# Altium integrated library TI Power Management DC-DC Controller (External Switch).IntLib: 349 symbols (part 7 of 28)
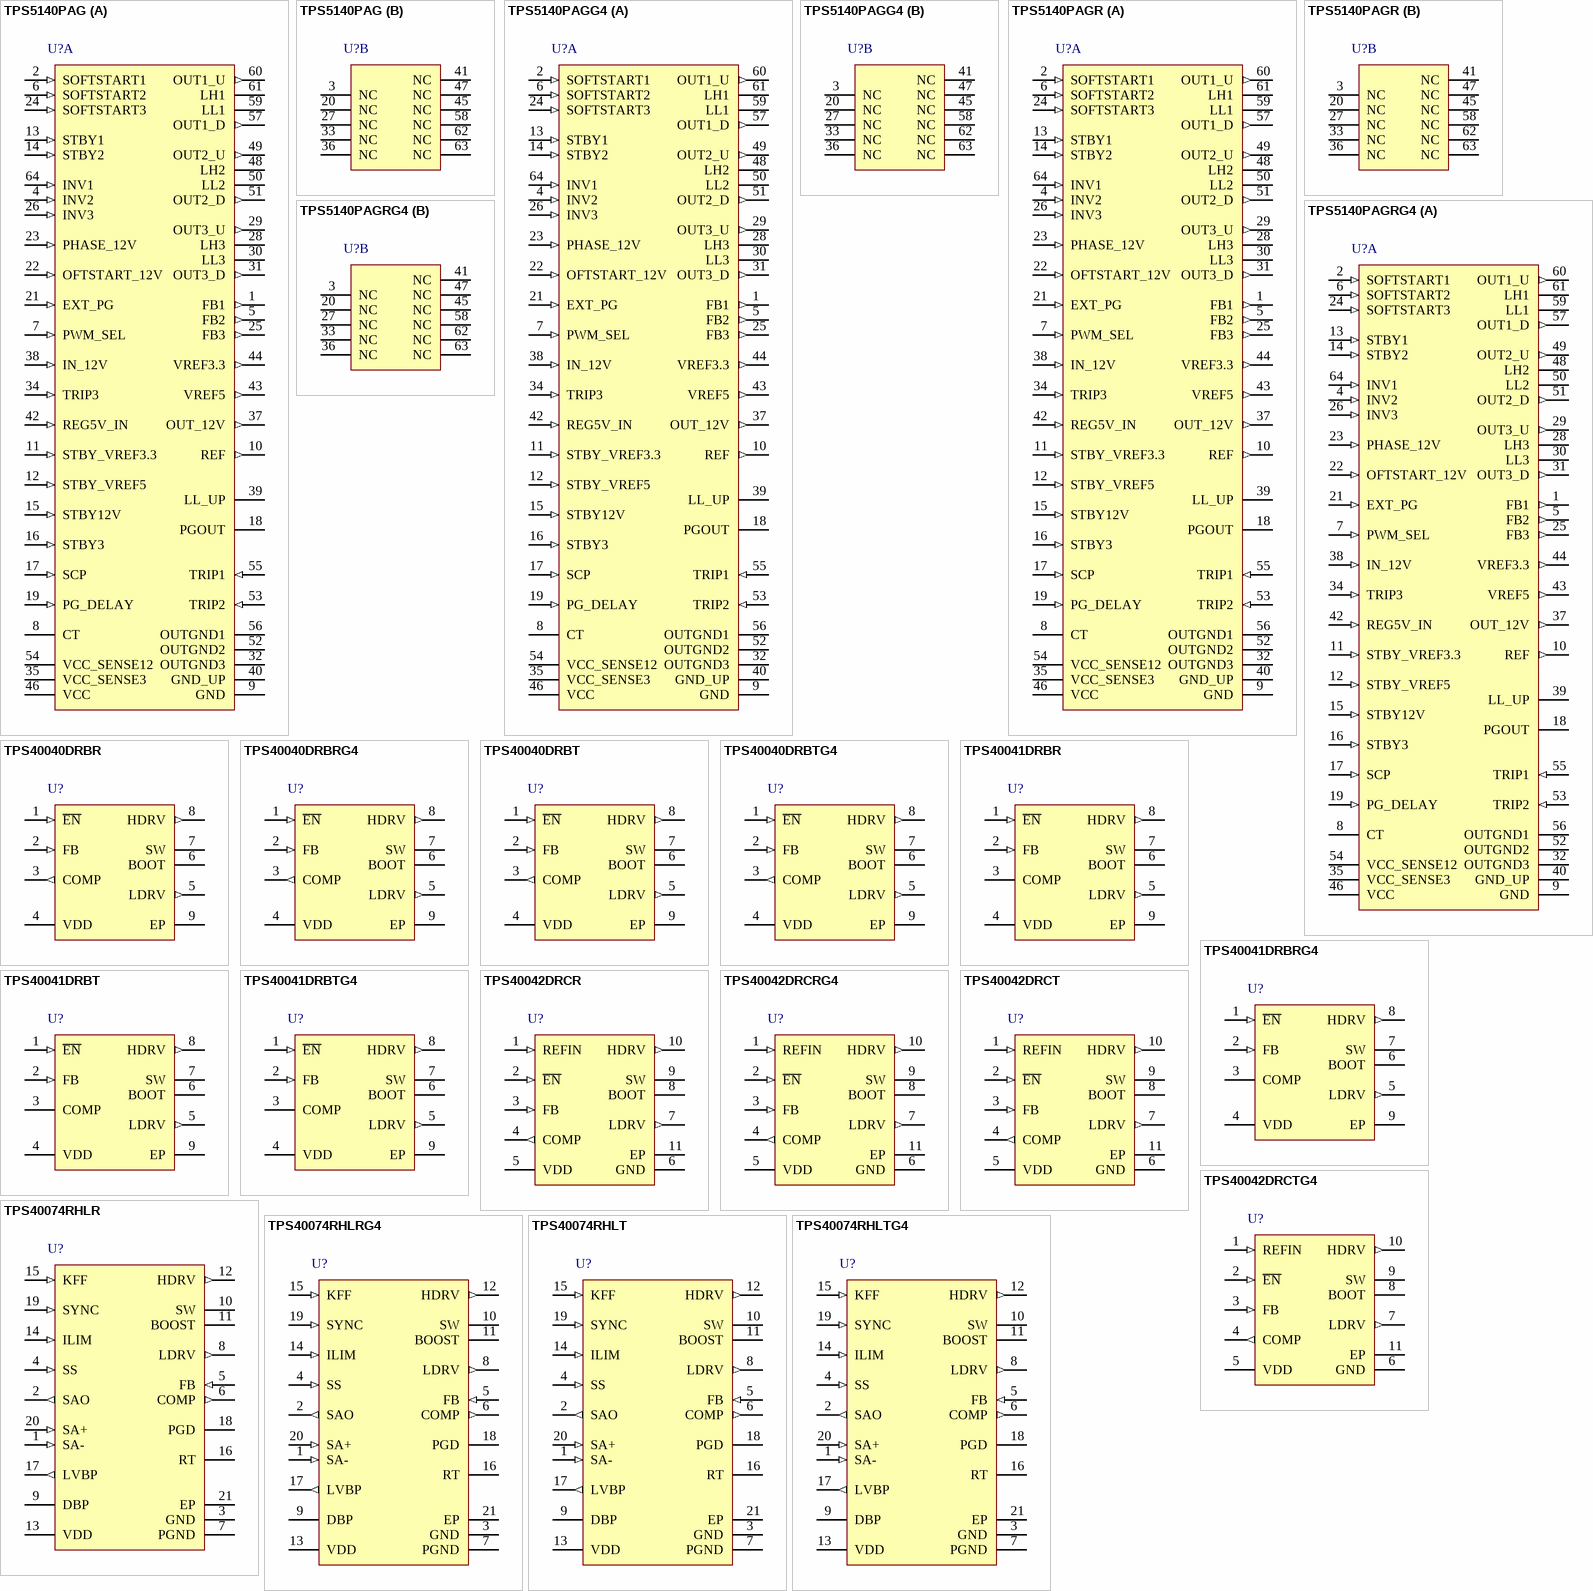
[diagram p20: symbols TPS5140PAG to TPS40074RHLTG4]

## TPS40042DRCRG4
designator U?
Low Pin Count, Low Vin Synchronous Buck DCDC Controller with Tracking, 90 % Duty Cycle, 3 to 5.5 V, -40 to 85 degC, 10-pin SON (DRC), Green (RoHS & no Sb/Br); Manufacturer: Texas Instruments; PartNumber: TPS40042DRCRG4; Duty Cycle(Max)(%): 90; Iout(Max)(A): 15; Regulated Outputs(#): 1; SubFamily: Step-Down Controller; Switching Frequency(Max)(kHz): 600; Synchronous Rectification: TRUE; Vin(Max)(V): 5.5; Vin(Min)(V): 3; Vout(Max)(V): 4.95; Vout(Min)(V): 0.6; DatasheetVersion: SLUS777; PackageVersion: revL, Sep-2011; PackageReference: DRC10-2400X1650TP; PackageDescription: 10-Pin Plastic Small Outline No-Lead, 3 x 3 x 1 mm Body, 0.5 mm Pitch, Exposed Pad; Supplier 1: Digi-Key; Supplier Part Number 1: TPS40042DRCRG4-ND; Supplier 2: Mouser; Supplier Part Number 2: 595-TPS40042DRCRG4; Eco-Plan: Green (RoHS & no Sb/Br); Topology: Buck; Mounting Technology: Surface Mount; ComponentLink1Description: Datasheet; ComponentLink1URL: http://www.ti.com/general/docs/lit/getliterature.tsp?genericPartNumber=TPS40042&fileType=pdf; ComponentLink2Description: Package Specification; ComponentLink2URL: http://www.ti.com/litv/pdf/mpds117k
footprint DRC10-2400X1650TP (SON, 10-Leads, Body 3x3mm, Pitch 0.5mm, Thermal Pad 2.4x1.65mm, TI Recommended)
pins: 1 REFIN (in) "Non-inverting imput to the error amplifier. A precision voltage must be applied to this pin before the TPS40042 is enabled. Since this input is connected directly to the non-inverting pin of the error amplifier, the quality (See Datasheet)", 2 ~{EN} (in) "Active low enable input allows ON/OFF operation of the controller. If power is applied to the TPS40042 while the EN pin is allowed to float high, the TPS40042 remains disabled (both external switches are held OFF). Only when (See Datasheet)", 3 FB (in) "Inverting input of the error amplifier. In closed loop operation, the voltage at this pin is at the same potential as the REFIN pin. A series resistor divider from the converter output to ground, with the center connection (See Datasheet)", 4 COMP (out) "Output of the error amplifier and connection node for loop feedback components. The voltage at this pin determines the duty cycle for the PWM. Optionally, a resistor from this pin to ground is used to determine the voltage (See Datasheet)", 5 VDD (power) "Power input to the device. This pin should be locally bypassed to GND with a low ESR ceramic capacitor of 1 µF or greater.", 6 GND (power) "Electrical ground connection for the device.", 7 LDRV (out) "Gate drive output for the low-side synchronous rectifier (SR) N-channel MOSFET.", 8 BOOT (power) "Input (bootstrapped) supply to the high-side gate driver for PWM enabling the gate of the high side FET to be driven above the input supply rail. Connect a ceramic capacitor from this pin to SW. This capacitor is charged (See Datasheet)", 9 SW (power) "Connection to the switched node of the converter and the power return for the upper gate driver. There should be a high current return path from the source of the upper MOSFET to this pin. It is also used by the adaptive (See Datasheet)", 10 HDRV (out) "This is the gate drive output for the high side N-channel MOSFET switch for PWM. It is referenced to SW and is bootstrapped for enhancement of the high-side switch.", 11 EP (power) "Thermal pad used to conduct heat from the device. This pad should be tied externally to a ground plane. See Application Section for PC board layout information."

## TPS40042DRCT
designator U?
Low Pin Count, Low Vin Synchronous Buck DCDC Controller with Tracking, 90 % Duty Cycle, 3 to 5.5 V, -40 to 85 degC, 10-pin SON (DRC), Green (RoHS & no Sb/Br); Manufacturer: Texas Instruments; PartNumber: TPS40042DRCT; Duty Cycle(Max)(%): 90; Iout(Max)(A): 15; Regulated Outputs(#): 1; SubFamily: Step-Down Controller; Switching Frequency(Max)(kHz): 600; Synchronous Rectification: TRUE; Vin(Max)(V): 5.5; Vin(Min)(V): 3; Vout(Max)(V): 4.95; Vout(Min)(V): 0.6; DatasheetVersion: SLUS777; PackageVersion: revL, Sep-2011; PackageReference: DRC10-2400X1650TP; PackageDescription: 10-Pin Plastic Small Outline No-Lead, 3 x 3 x 1 mm Body, 0.5 mm Pitch, Exposed Pad; Supplier 1: Digi-Key; Supplier Part Number 1: 296-22978-2-ND; Supplier 2: Digi-Key; Supplier Part Number 2: 296-22978-1-ND; Supplier 3: Digi-Key; Supplier Part Number 3: 296-22978-6-ND; Supplier 4: Newark; Supplier Part Number 4: 73M7842; Supplier 5: Mouser; Supplier Part Number 5: 595-TPS40042DRCT; Eco-Plan: Green (RoHS & no Sb/Br); Topology: Buck; Mounting Technology: Surface Mount; ComponentLink1Description: Datasheet; ComponentLink1URL: http://www.ti.com/general/docs/lit/getliterature.tsp?genericPartNumber=TPS40042&fileType=pdf; ComponentLink2Description: Package Specification; ComponentLink2URL: http://www.ti.com/litv/pdf/mpds117k
footprint DRC10-2400X1650TP (SON, 10-Leads, Body 3x3mm, Pitch 0.5mm, Thermal Pad 2.4x1.65mm, TI Recommended)
pins: 1 REFIN (in) "Non-inverting imput to the error amplifier. A precision voltage must be applied to this pin before the TPS40042 is enabled. Since this input is connected directly to the non-inverting pin of the error amplifier, the quality (See Datasheet)", 2 ~{EN} (in) "Active low enable input allows ON/OFF operation of the controller. If power is applied to the TPS40042 while the EN pin is allowed to float high, the TPS40042 remains disabled (both external switches are held OFF). Only when (See Datasheet)", 3 FB (in) "Inverting input of the error amplifier. In closed loop operation, the voltage at this pin is at the same potential as the REFIN pin. A series resistor divider from the converter output to ground, with the center connection (See Datasheet)", 4 COMP (out) "Output of the error amplifier and connection node for loop feedback components. The voltage at this pin determines the duty cycle for the PWM. Optionally, a resistor from this pin to ground is used to determine the voltage (See Datasheet)", 5 VDD (power) "Power input to the device. This pin should be locally bypassed to GND with a low ESR ceramic capacitor of 1 µF or greater.", 6 GND (power) "Electrical ground connection for the device.", 7 LDRV (out) "Gate drive output for the low-side synchronous rectifier (SR) N-channel MOSFET.", 8 BOOT (power) "Input (bootstrapped) supply to the high-side gate driver for PWM enabling the gate of the high side FET to be driven above the input supply rail. Connect a ceramic capacitor from this pin to SW. This capacitor is charged (See Datasheet)", 9 SW (power) "Connection to the switched node of the converter and the power return for the upper gate driver. There should be a high current return path from the source of the upper MOSFET to this pin. It is also used by the adaptive (See Datasheet)", 10 HDRV (out) "This is the gate drive output for the high side N-channel MOSFET switch for PWM. It is referenced to SW and is bootstrapped for enhancement of the high-side switch.", 11 EP (power) "Thermal pad used to conduct heat from the device. This pad should be tied externally to a ground plane. See Application Section for PC board layout information."

## TPS40042DRCTG4
designator U?
Low Pin Count, Low Vin Synchronous Buck DCDC Controller with Tracking, 90 % Duty Cycle, 3 to 5.5 V, -40 to 85 degC, 10-pin SON (DRC), Green (RoHS & no Sb/Br); Manufacturer: Texas Instruments; PartNumber: TPS40042DRCTG4; Duty Cycle(Max)(%): 90; Iout(Max)(A): 15; Regulated Outputs(#): 1; SubFamily: Step-Down Controller; Switching Frequency(Max)(kHz): 600; Synchronous Rectification: TRUE; Vin(Max)(V): 5.5; Vin(Min)(V): 3; Vout(Max)(V): 4.95; Vout(Min)(V): 0.6; DatasheetVersion: SLUS777; PackageVersion: revL, Sep-2011; PackageReference: DRC10-2400X1650TP; PackageDescription: 10-Pin Plastic Small Outline No-Lead, 3 x 3 x 1 mm Body, 0.5 mm Pitch, Exposed Pad; Supplier 1: Digi-Key; Supplier Part Number 1: TPS40042DRCTG4-ND; Supplier 2: Mouser; Supplier Part Number 2: 595-TPS40042DRCTG4; Eco-Plan: Green (RoHS & no Sb/Br); Topology: Buck; Mounting Technology: Surface Mount; ComponentLink1Description: Datasheet; ComponentLink1URL: http://www.ti.com/general/docs/lit/getliterature.tsp?genericPartNumber=TPS40042&fileType=pdf; ComponentLink2Description: Package Specification; ComponentLink2URL: http://www.ti.com/litv/pdf/mpds117k
footprint DRC10-2400X1650TP (SON, 10-Leads, Body 3x3mm, Pitch 0.5mm, Thermal Pad 2.4x1.65mm, TI Recommended)
pins: 1 REFIN (in) "Non-inverting imput to the error amplifier. A precision voltage must be applied to this pin before the TPS40042 is enabled. Since this input is connected directly to the non-inverting pin of the error amplifier, the quality (See Datasheet)", 2 ~{EN} (in) "Active low enable input allows ON/OFF operation of the controller. If power is applied to the TPS40042 while the EN pin is allowed to float high, the TPS40042 remains disabled (both external switches are held OFF). Only when (See Datasheet)", 3 FB (in) "Inverting input of the error amplifier. In closed loop operation, the voltage at this pin is at the same potential as the REFIN pin. A series resistor divider from the converter output to ground, with the center connection (See Datasheet)", 4 COMP (out) "Output of the error amplifier and connection node for loop feedback components. The voltage at this pin determines the duty cycle for the PWM. Optionally, a resistor from this pin to ground is used to determine the voltage (See Datasheet)", 5 VDD (power) "Power input to the device. This pin should be locally bypassed to GND with a low ESR ceramic capacitor of 1 µF or greater.", 6 GND (power) "Electrical ground connection for the device.", 7 LDRV (out) "Gate drive output for the low-side synchronous rectifier (SR) N-channel MOSFET.", 8 BOOT (power) "Input (bootstrapped) supply to the high-side gate driver for PWM enabling the gate of the high side FET to be driven above the input supply rail. Connect a ceramic capacitor from this pin to SW. This capacitor is charged (See Datasheet)", 9 SW (power) "Connection to the switched node of the converter and the power return for the upper gate driver. There should be a high current return path from the source of the upper MOSFET to this pin. It is also used by the adaptive (See Datasheet)", 10 HDRV (out) "This is the gate drive output for the high side N-channel MOSFET switch for PWM. It is referenced to SW and is bootstrapped for enhancement of the high-side switch.", 11 EP (power) "Thermal pad used to conduct heat from the device. This pad should be tied externally to a ground plane. See Application Section for PC board layout information."

## TPS40074RHLR
designator U?
Mid Range Input Synchronous Buck Controller with Voltage Feed-Forward, 84 % Duty Cycle, 4.5 to 28 V, -40 to 85 degC, 20-pin QFN (RHL), Green (RoHS & no Sb/Br); Manufacturer: Texas Instruments; PartNumber: TPS40074RHLR; Duty Cycle(Max)(%): 84; Iout(Max)(A): 20; Regulated Outputs(#): 1; SubFamily: Step-Down Controller; Switching Frequency(Max)(kHz): 1000; Synchronous Rectification: TRUE; Vin(Max)(V): 28; Vin(Min)(V): 4.5; Vout(Max)(V): 23; Vout(Min)(V): 0.7; DatasheetVersion: SLUS617B; PackageVersion: revJ, Dec-2011; PackageReference: RHL20-3050X2050TP; PackageDescription: 20-Leads Plastic Quad Flatpack No-Lead, 4.5 x 3.5 x 0.9 mm Body, 0.5 mm Pitch, Exposed Pad; Supplier 1: Digi-Key; Supplier Part Number 1: 296-18670-2-ND; Supplier 2: Digi-Key; Supplier Part Number 2: 296-18670-1-ND; Supplier 3: Digi-Key; Supplier Part Number 3: 296-18670-6-ND; Supplier 4: Mouser; Supplier Part Number 4: 595-TPS40074RHLR; Eco-Plan: Green (RoHS & no Sb/Br); Topology: Buck; Mounting Technology: Surface Mount; ComponentLink1Description: Datasheet; ComponentLink1URL: http://www.ti.com/general/docs/lit/getliterature.tsp?genericPartNumber=TPS40074&fileType=pdf; ComponentLink2Description: Package Specification; ComponentLink2URL: http://www.ti.com/litv/pdf/mpqf155i
footprint RHL20-3050X2050TP (QFN, 20-Leads, Body 4.5x3.5mm, Pitch 0.5mm, Thermal Pad 3.05x2.05mm, TI Recommended)
pins: 1 SA- (in) "Inverting input of the remote voltage sense amplifier.", 2 SAO (out) "Output of the remote voltage sense amplifier.", 3 GND (power) "Ground reference for the device.", 4 SS (in) "Soft-start programming pin. A capacitor connected from this pin to GND programs the soft-start time. The capacitor is charged with an internal current source of 12 uA. The resulting voltage ramp on the SS pin is used as a (See Datasheet)", 5 FB (in) "Inverting input to the error amplifier. In normal operation the voltage on this pin is equal to the internal reference voltage, 0.7 V.", 6 COMP (out) "Output of the error amplifier, input to the PWM comparator. A feedback network is connected from this pin to the FB pin to compensate the overall loop. This pin is internally clamped to a 3.4-V maximum output drive (See Datasheet)", 7 PGND (power) "Power ground reference for the device. There should be a low-impedance path from this pin to the source(s) of the lower MOSFET(s).", 8 LDRV (out) "Gate drive for the N-channel synchronous rectifier. This pin switches from DBP (MOSFET on) to PGND (MOSFET off). For proper operation, the total gate charge of the MOSFET connected to LDRV should be less than 50nC.", 9 DBP (power) "8-V regulator output used for the gate drive of the N-channel synchronous rectifier and as the supply for charging the bootstrap capacitor. This pin should be bypassed to ground with a 1.0-uF ceramic capacitor.", 10 SW (power) "This pin is connected to the switched node of the converter and used for overcurrent sensing as well as gate drive timing. This pin is also the return path from the high-side FET for the floating high-side FET driver. A 1.(See Datasheet)", 11 BOOST (power) "The BOOST voltage is 8-V greater than the input voltage. The peak voltage on BOOST is equal to the SW node voltage plus the voltage present at DBP less the bootstrap diode drop. This drop can be 1.4 V for the internal (See Datasheet)", 12 HDRV (out) "Floating gate drive for the high-side N-channel MOSFET. This pin switches from BOOST (MOSFET on) to SW (MOSFET off).", 13 VDD (power) "Supply voltage for the device.", 14 ILIM (in) "Short circuit protection programming pin. This pin is used to set the overcurrent threshold. An internal current sink from this pin to ground sets a voltage drop across an external resistor connected from this pin to VDD. (See Datasheet)", 15 KFF (in) "A resistor is connected from this pin to VDD programs the amount of input voltage feed-forward. The current fed into this pin is used to control the slope of the PWM ramp and program undervoltage lockout. Nominal voltage at (See Datasheet)", 16 RT "A resistor is connected from this pin to GND to set the switching frequency.", 17 LVBP (out) "4.2-V reference used for internal device logic and analog functions. This pin should be bypassed to GND with a 0.1-uF ceramic capacitor. External loads less than 1 mA and electrically quiet may be applied.", 18 PGD (oc) "This is an open drain output that pulls to ground when soft start is active, or when the FB pin is outside a +/-10% band around the 700 mV reference voltage.", 19 SYNC (in) "Logic input for pulse train to synchronize oscillator.", 20 SA+ (in) "Noninverting input of the remote voltage sense amplifier.", 21 EP (power) "Exposed Thermal Pad"

## TPS40074RHLRG4
designator U?
Mid Range Input Synchronous Buck Controller with Voltage Feed-Forward, 84 % Duty Cycle, 4.5 to 28 V, -40 to 85 degC, 20-pin QFN (RHL), Green (RoHS & no Sb/Br); Manufacturer: Texas Instruments; PartNumber: TPS40074RHLRG4; Duty Cycle(Max)(%): 84; Iout(Max)(A): 20; Regulated Outputs(#): 1; SubFamily: Step-Down Controller; Switching Frequency(Max)(kHz): 1000; Synchronous Rectification: TRUE; Vin(Max)(V): 28; Vin(Min)(V): 4.5; Vout(Max)(V): 23; Vout(Min)(V): 0.7; DatasheetVersion: SLUS617B; PackageVersion: revJ, Dec-2011; PackageReference: RHL20-3050X2050TP; PackageDescription: 20-Leads Plastic Quad Flatpack No-Lead, 4.5 x 3.5 x 0.9 mm Body, 0.5 mm Pitch, Exposed Pad; Supplier 1: Digi-Key; Supplier Part Number 1: TPS40074RHLRG4-ND; Supplier 2: Mouser; Supplier Part Number 2: 595-TPS40074RHLRG4; Eco-Plan: Green (RoHS & no Sb/Br); Topology: Buck; Mounting Technology: Surface Mount; ComponentLink1Description: Datasheet; ComponentLink1URL: http://www.ti.com/general/docs/lit/getliterature.tsp?genericPartNumber=TPS40074&fileType=pdf; ComponentLink2Description: Package Specification; ComponentLink2URL: http://www.ti.com/litv/pdf/mpqf155i
footprint RHL20-3050X2050TP (QFN, 20-Leads, Body 4.5x3.5mm, Pitch 0.5mm, Thermal Pad 3.05x2.05mm, TI Recommended)
pins: 1 SA- (in) "Inverting input of the remote voltage sense amplifier.", 2 SAO (out) "Output of the remote voltage sense amplifier.", 3 GND (power) "Ground reference for the device.", 4 SS (in) "Soft-start programming pin. A capacitor connected from this pin to GND programs the soft-start time. The capacitor is charged with an internal current source of 12 uA. The resulting voltage ramp on the SS pin is used as a (See Datasheet)", 5 FB (in) "Inverting input to the error amplifier. In normal operation the voltage on this pin is equal to the internal reference voltage, 0.7 V.", 6 COMP (out) "Output of the error amplifier, input to the PWM comparator. A feedback network is connected from this pin to the FB pin to compensate the overall loop. This pin is internally clamped to a 3.4-V maximum output drive (See Datasheet)", 7 PGND (power) "Power ground reference for the device. There should be a low-impedance path from this pin to the source(s) of the lower MOSFET(s).", 8 LDRV (out) "Gate drive for the N-channel synchronous rectifier. This pin switches from DBP (MOSFET on) to PGND (MOSFET off). For proper operation, the total gate charge of the MOSFET connected to LDRV should be less than 50nC.", 9 DBP (power) "8-V regulator output used for the gate drive of the N-channel synchronous rectifier and as the supply for charging the bootstrap capacitor. This pin should be bypassed to ground with a 1.0-uF ceramic capacitor.", 10 SW (power) "This pin is connected to the switched node of the converter and used for overcurrent sensing as well as gate drive timing. This pin is also the return path from the high-side FET for the floating high-side FET driver. A 1.(See Datasheet)", 11 BOOST (power) "The BOOST voltage is 8-V greater than the input voltage. The peak voltage on BOOST is equal to the SW node voltage plus the voltage present at DBP less the bootstrap diode drop. This drop can be 1.4 V for the internal (See Datasheet)", 12 HDRV (out) "Floating gate drive for the high-side N-channel MOSFET. This pin switches from BOOST (MOSFET on) to SW (MOSFET off).", 13 VDD (power) "Supply voltage for the device.", 14 ILIM (in) "Short circuit protection programming pin. This pin is used to set the overcurrent threshold. An internal current sink from this pin to ground sets a voltage drop across an external resistor connected from this pin to VDD. (See Datasheet)", 15 KFF (in) "A resistor is connected from this pin to VDD programs the amount of input voltage feed-forward. The current fed into this pin is used to control the slope of the PWM ramp and program undervoltage lockout. Nominal voltage at (See Datasheet)", 16 RT "A resistor is connected from this pin to GND to set the switching frequency.", 17 LVBP (out) "4.2-V reference used for internal device logic and analog functions. This pin should be bypassed to GND with a 0.1-uF ceramic capacitor. External loads less than 1 mA and electrically quiet may be applied.", 18 PGD (oc) "This is an open drain output that pulls to ground when soft start is active, or when the FB pin is outside a +/-10% band around the 700 mV reference voltage.", 19 SYNC (in) "Logic input for pulse train to synchronize oscillator.", 20 SA+ (in) "Noninverting input of the remote voltage sense amplifier.", 21 EP (power) "Exposed Thermal Pad"

## TPS40074RHLT
designator U?
Mid Range Input Synchronous Buck Controller with Voltage Feed-Forward, 84 % Duty Cycle, 4.5 to 28 V, -40 to 85 degC, 20-pin QFN (RHL), Green (RoHS & no Sb/Br); Manufacturer: Texas Instruments; PartNumber: TPS40074RHLT; Duty Cycle(Max)(%): 84; Iout(Max)(A): 20; Regulated Outputs(#): 1; SubFamily: Step-Down Controller; Switching Frequency(Max)(kHz): 1000; Synchronous Rectification: TRUE; Vin(Max)(V): 28; Vin(Min)(V): 4.5; Vout(Max)(V): 23; Vout(Min)(V): 0.7; DatasheetVersion: SLUS617B; PackageVersion: revJ, Dec-2011; PackageReference: RHL20-3050X2050TP; PackageDescription: 20-Leads Plastic Quad Flatpack No-Lead, 4.5 x 3.5 x 0.9 mm Body, 0.5 mm Pitch, Exposed Pad; Supplier 1: Digi-Key; Supplier Part Number 1: TPS40074RHLT-ND; Supplier 2: Mouser; Supplier Part Number 2: 595-TPS40074RHLT; Eco-Plan: Green (RoHS & no Sb/Br); Topology: Buck; Mounting Technology: Surface Mount; ComponentLink1Description: Datasheet; ComponentLink1URL: http://www.ti.com/general/docs/lit/getliterature.tsp?genericPartNumber=TPS40074&fileType=pdf; ComponentLink2Description: Package Specification; ComponentLink2URL: http://www.ti.com/litv/pdf/mpqf155i
footprint RHL20-3050X2050TP (QFN, 20-Leads, Body 4.5x3.5mm, Pitch 0.5mm, Thermal Pad 3.05x2.05mm, TI Recommended)
pins: 1 SA- (in) "Inverting input of the remote voltage sense amplifier.", 2 SAO (out) "Output of the remote voltage sense amplifier.", 3 GND (power) "Ground reference for the device.", 4 SS (in) "Soft-start programming pin. A capacitor connected from this pin to GND programs the soft-start time. The capacitor is charged with an internal current source of 12 uA. The resulting voltage ramp on the SS pin is used as a (See Datasheet)", 5 FB (in) "Inverting input to the error amplifier. In normal operation the voltage on this pin is equal to the internal reference voltage, 0.7 V.", 6 COMP (out) "Output of the error amplifier, input to the PWM comparator. A feedback network is connected from this pin to the FB pin to compensate the overall loop. This pin is internally clamped to a 3.4-V maximum output drive (See Datasheet)", 7 PGND (power) "Power ground reference for the device. There should be a low-impedance path from this pin to the source(s) of the lower MOSFET(s).", 8 LDRV (out) "Gate drive for the N-channel synchronous rectifier. This pin switches from DBP (MOSFET on) to PGND (MOSFET off). For proper operation, the total gate charge of the MOSFET connected to LDRV should be less than 50nC.", 9 DBP (power) "8-V regulator output used for the gate drive of the N-channel synchronous rectifier and as the supply for charging the bootstrap capacitor. This pin should be bypassed to ground with a 1.0-uF ceramic capacitor.", 10 SW (power) "This pin is connected to the switched node of the converter and used for overcurrent sensing as well as gate drive timing. This pin is also the return path from the high-side FET for the floating high-side FET driver. A 1.(See Datasheet)", 11 BOOST (power) "The BOOST voltage is 8-V greater than the input voltage. The peak voltage on BOOST is equal to the SW node voltage plus the voltage present at DBP less the bootstrap diode drop. This drop can be 1.4 V for the internal (See Datasheet)", 12 HDRV (out) "Floating gate drive for the high-side N-channel MOSFET. This pin switches from BOOST (MOSFET on) to SW (MOSFET off).", 13 VDD (power) "Supply voltage for the device.", 14 ILIM (in) "Short circuit protection programming pin. This pin is used to set the overcurrent threshold. An internal current sink from this pin to ground sets a voltage drop across an external resistor connected from this pin to VDD. (See Datasheet)", 15 KFF (in) "A resistor is connected from this pin to VDD programs the amount of input voltage feed-forward. The current fed into this pin is used to control the slope of the PWM ramp and program undervoltage lockout. Nominal voltage at (See Datasheet)", 16 RT "A resistor is connected from this pin to GND to set the switching frequency.", 17 LVBP (out) "4.2-V reference used for internal device logic and analog functions. This pin should be bypassed to GND with a 0.1-uF ceramic capacitor. External loads less than 1 mA and electrically quiet may be applied.", 18 PGD (oc) "This is an open drain output that pulls to ground when soft start is active, or when the FB pin is outside a +/-10% band around the 700 mV reference voltage.", 19 SYNC (in) "Logic input for pulse train to synchronize oscillator.", 20 SA+ (in) "Noninverting input of the remote voltage sense amplifier.", 21 EP (power) "Exposed Thermal Pad"

## TPS40074RHLTG4
designator U?
Mid Range Input Synchronous Buck Controller with Voltage Feed-Forward, 84 % Duty Cycle, 4.5 to 28 V, -40 to 85 degC, 20-pin QFN (RHL), Green (RoHS & no Sb/Br); Manufacturer: Texas Instruments; PartNumber: TPS40074RHLTG4; Duty Cycle(Max)(%): 84; Iout(Max)(A): 20; Regulated Outputs(#): 1; SubFamily: Step-Down Controller; Switching Frequency(Max)(kHz): 1000; Synchronous Rectification: TRUE; Vin(Max)(V): 28; Vin(Min)(V): 4.5; Vout(Max)(V): 23; Vout(Min)(V): 0.7; DatasheetVersion: SLUS617B; PackageVersion: revJ, Dec-2011; PackageReference: RHL20-3050X2050TP; PackageDescription: 20-Leads Plastic Quad Flatpack No-Lead, 4.5 x 3.5 x 0.9 mm Body, 0.5 mm Pitch, Exposed Pad; Supplier 1: Digi-Key; Supplier Part Number 1: TPS40074RHLTG4-ND; Supplier 2: Mouser; Supplier Part Number 2: 595-TPS40074RHLTG4; Eco-Plan: Green (RoHS & no Sb/Br); Topology: Buck; Mounting Technology: Surface Mount; ComponentLink1Description: Datasheet; ComponentLink1URL: http://www.ti.com/general/docs/lit/getliterature.tsp?genericPartNumber=TPS40074&fileType=pdf; ComponentLink2Description: Package Specification; ComponentLink2URL: http://www.ti.com/litv/pdf/mpqf155i
footprint RHL20-3050X2050TP (QFN, 20-Leads, Body 4.5x3.5mm, Pitch 0.5mm, Thermal Pad 3.05x2.05mm, TI Recommended)
pins: 1 SA- (in) "Inverting input of the remote voltage sense amplifier.", 2 SAO (out) "Output of the remote voltage sense amplifier.", 3 GND (power) "Ground reference for the device.", 4 SS (in) "Soft-start programming pin. A capacitor connected from this pin to GND programs the soft-start time. The capacitor is charged with an internal current source of 12 uA. The resulting voltage ramp on the SS pin is used as a (See Datasheet)", 5 FB (in) "Inverting input to the error amplifier. In normal operation the voltage on this pin is equal to the internal reference voltage, 0.7 V.", 6 COMP (out) "Output of the error amplifier, input to the PWM comparator. A feedback network is connected from this pin to the FB pin to compensate the overall loop. This pin is internally clamped to a 3.4-V maximum output drive (See Datasheet)", 7 PGND (power) "Power ground reference for the device. There should be a low-impedance path from this pin to the source(s) of the lower MOSFET(s).", 8 LDRV (out) "Gate drive for the N-channel synchronous rectifier. This pin switches from DBP (MOSFET on) to PGND (MOSFET off). For proper operation, the total gate charge of the MOSFET connected to LDRV should be less than 50nC.", 9 DBP (power) "8-V regulator output used for the gate drive of the N-channel synchronous rectifier and as the supply for charging the bootstrap capacitor. This pin should be bypassed to ground with a 1.0-uF ceramic capacitor.", 10 SW (power) "This pin is connected to the switched node of the converter and used for overcurrent sensing as well as gate drive timing. This pin is also the return path from the high-side FET for the floating high-side FET driver. A 1.(See Datasheet)", 11 BOOST (power) "The BOOST voltage is 8-V greater than the input voltage. The peak voltage on BOOST is equal to the SW node voltage plus the voltage present at DBP less the bootstrap diode drop. This drop can be 1.4 V for the internal (See Datasheet)", 12 HDRV (out) "Floating gate drive for the high-side N-channel MOSFET. This pin switches from BOOST (MOSFET on) to SW (MOSFET off).", 13 VDD (power) "Supply voltage for the device.", 14 ILIM (in) "Short circuit protection programming pin. This pin is used to set the overcurrent threshold. An internal current sink from this pin to ground sets a voltage drop across an external resistor connected from this pin to VDD. (See Datasheet)", 15 KFF (in) "A resistor is connected from this pin to VDD programs the amount of input voltage feed-forward. The current fed into this pin is used to control the slope of the PWM ramp and program undervoltage lockout. Nominal voltage at (See Datasheet)", 16 RT "A resistor is connected from this pin to GND to set the switching frequency.", 17 LVBP (out) "4.2-V reference used for internal device logic and analog functions. This pin should be bypassed to GND with a 0.1-uF ceramic capacitor. External loads less than 1 mA and electrically quiet may be applied.", 18 PGD (oc) "This is an open drain output that pulls to ground when soft start is active, or when the FB pin is outside a +/-10% band around the 700 mV reference voltage.", 19 SYNC (in) "Logic input for pulse train to synchronize oscillator.", 20 SA+ (in) "Noninverting input of the remote voltage sense amplifier.", 21 EP (power) "Exposed Thermal Pad"

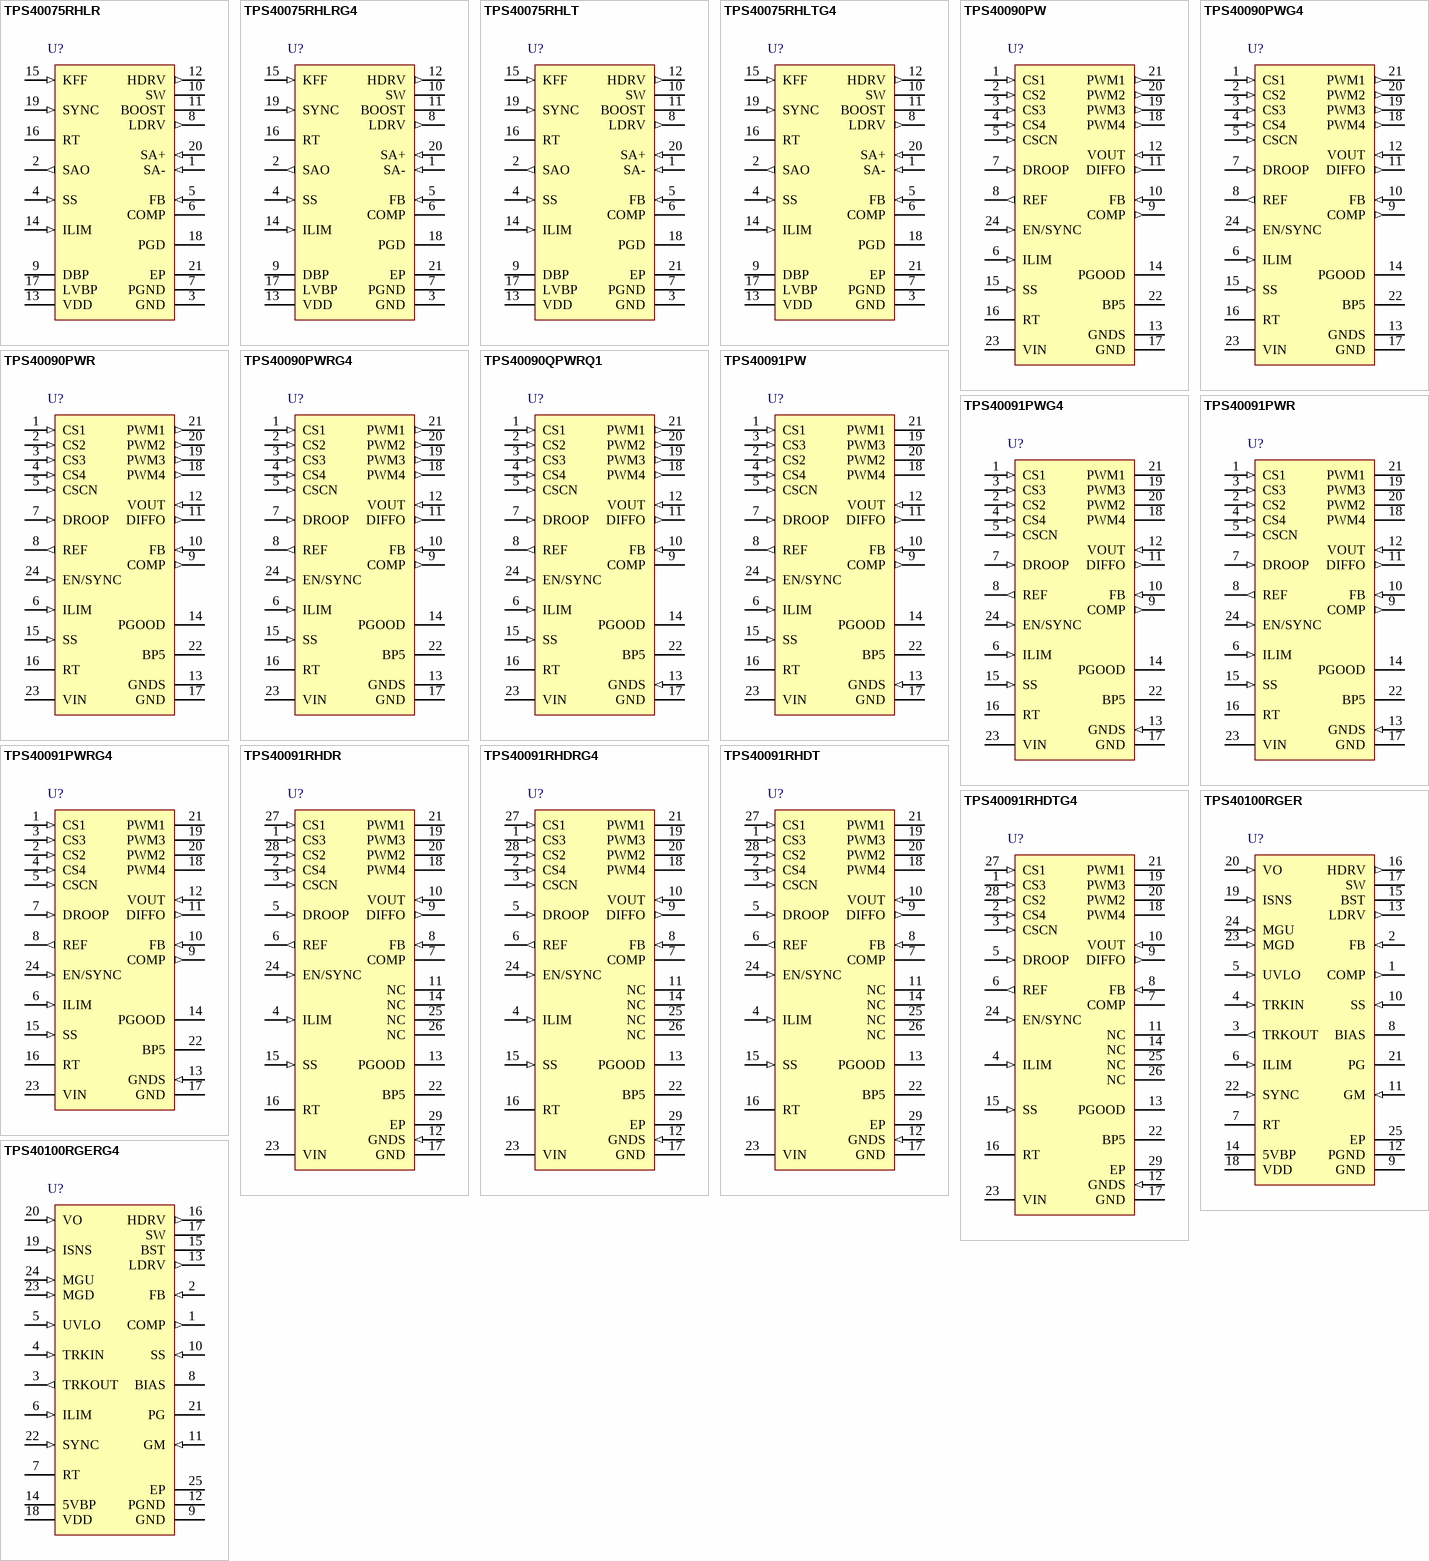
[diagram p5: symbols TPS40075RHLR to TPS40100RGERG4]

## TPS40075RHLR
designator U?
Wide Input Synchronous Buck Controller with Voltage Feed Forward, 84 % Duty Cycle, 4.5 to 28 V, -40 to 85 degC, 20-pin QFN (RHL), Green (RoHS & no Sb/Br); Manufacturer: Texas Instruments; PartNumber: TPS40075RHLR; Duty Cycle(Max)(%): 84; Iout(Max)(A): 20; Regulated Outputs(#): 1; SubFamily: Step-Down Controller; Switching Frequency(Max)(kHz): 1000; Synchronous Rectification: TRUE; Vin(Max)(V): 28; Vin(Min)(V): 4.5; Vout(Max)(V): 23; Vout(Min)(V): 0.7; DatasheetVersion: SLUS676A; PackageVersion: revJ, Dec-2011; PackageReference: RHL20-3050X2050TP; PackageDescription: 20-Leads Plastic Quad Flatpack No-Lead, 4.5 x 3.5 x 0.9 mm Body, 0.5 mm Pitch, Exposed Pad; Supplier 1: Digi-Key; Supplier Part Number 1: TPS40075RHLR-ND; Supplier 2: Newark; Supplier Part Number 2: 03M1112; Supplier 3: Mouser; Supplier Part Number 3: 595-TPS40075RHLR; Eco-Plan: Green (RoHS & no Sb/Br); Topology: Buck; Mounting Technology: Surface Mount; ComponentLink1Description: Datasheet; ComponentLink1URL: http://www.ti.com/general/docs/lit/getliterature.tsp?genericPartNumber=TPS40075&fileType=pdf; ComponentLink2Description: Package Specification; ComponentLink2URL: http://www.ti.com/litv/pdf/mpqf155i
footprint RHL20-3050X2050TP (QFN, 20-Leads, Body 4.5x3.5mm, Pitch 0.5mm, Thermal Pad 3.05x2.05mm, TI Recommended)
pins: 1 SA- (in) "Inverting input of the remote voltage sense amplifier.", 2 SAO (out) "Output of the remote voltage sense amplifier.", 3 GND (power) "Ground reference for the device.", 4 SS (in) "Soft-start programming pin. A capacitor connected from this pin to GND programs the soft-start time. The capacitor is charged with an internal current source of 12 uA. The resulting voltage ramp on the SS pin is used as a (See Datasheet)", 5 FB (in) "Inverting input to the error amplifier. In normal operation the voltage on this pin is equal to the internal reference voltage, 0.7 V.", 6 COMP "Output of the error amplifier, input to the PWM comparator. A feedback network is connected from this pin to the FB pin to compensate the overall loop. This pin is internally clamped to a 3.4-V maximum output drive (See Datasheet)", 7 PGND (power) "Power ground reference for the device. There should be a low-impedance path from this pin to the source(s) of the lower MOSFET(s).", 8 LDRV (out) "Gate drive for the N-channel synchronous rectifier. This pin switches from DBP (MOSFET on) to PGND (MOSFET off). For proper operation, the total gate charge of the MOSFET connected to LDRV should be less than 50nC.", 9 DBP (power) "8-V regulator output used for the gate drive of the N-channel synchronous rectifier and as the supply for charging the bootstrap capacitor. This pin should be bypassed to ground with a 1.0-uF ceramic capacitor.", 10 SW (power) "This pin is connected to the switched node of the converter and used for overcurrent sensing as well as gate drive timing. This pin is also the return path from the high-side FET for the floating high-side FET driver. A 1.(See Datasheet)", 11 BOOST (power) "The BOOST voltage is 8-V greater than the input voltage. The peak voltage on BOOST is equal to the SW node voltage plus the voltage present at DBP less the bootstrap diode drop. This drop can be 1.4 V for the internal (See Datasheet)", 12 HDRV (out) "Floating gate drive for the high-side N-channel MOSFET. This pin switches from BOOST (MOSFET on) to SW (MOSFET off).", 13 VDD (power) "Supply voltage for the device.", 14 ILIM (in) "Short circuit protection programming pin. This pin is used to set the overcurrent threshold. An internal current sink from this pin to ground sets a voltage drop across an external resistor connected from this pin to VDD. (See Datasheet)", 15 KFF (in) "A resistor is connected from this pin to VDD programs the amount of input voltage feed-forward. The current fed into this pin is used to control the slope of the PWM ramp and program undervoltage lockout. Nominal voltage at (See Datasheet)", 16 RT "A resistor is connected from this pin to GND to set the switching frequency.", 17 LVBP (power) "4.2-V reference used for internal device logic and analog functions. This pin should be bypassed to GND with a 0.1-uF ceramic capacitor. External loads less than 1 mA and electrically quiet may be applied.", 18 PGD (oc) "This is an open drain output that pulls to ground when soft start is active, or when the FB pin is outside a +/-10% band around the 700 mV reference voltage.", 19 SYNC (in) "Logic input for pulse train to synchronize oscillator.", 20 SA+ (in) "Noninverting input of the remote voltage sense amplifier.", 21 EP "Exposed Thermal Pad."

## TPS40075RHLRG4
designator U?
Wide Input Synchronous Buck Controller with Voltage Feed Forward, 84 % Duty Cycle, 4.5 to 28 V, -40 to 85 degC, 20-pin QFN (RHL), Green (RoHS & no Sb/Br); Manufacturer: Texas Instruments; PartNumber: TPS40075RHLRG4; Duty Cycle(Max)(%): 84; Iout(Max)(A): 20; Regulated Outputs(#): 1; SubFamily: Step-Down Controller; Switching Frequency(Max)(kHz): 1000; Synchronous Rectification: TRUE; Vin(Max)(V): 28; Vin(Min)(V): 4.5; Vout(Max)(V): 23; Vout(Min)(V): 0.7; DatasheetVersion: SLUS676A; PackageVersion: revJ, Dec-2011; PackageReference: RHL20-3050X2050TP; PackageDescription: 20-Leads Plastic Quad Flatpack No-Lead, 4.5 x 3.5 x 0.9 mm Body, 0.5 mm Pitch, Exposed Pad; Supplier 1: Digi-Key; Supplier Part Number 1: TPS40075RHLRG4-ND; Supplier 2: Newark; Supplier Part Number 2: 04M0251; Supplier 3: Mouser; Supplier Part Number 3: 595-TPS40075RHLRG4; Eco-Plan: Green (RoHS & no Sb/Br); Topology: Buck; Mounting Technology: Surface Mount; ComponentLink1Description: Datasheet; ComponentLink1URL: http://www.ti.com/general/docs/lit/getliterature.tsp?genericPartNumber=TPS40075&fileType=pdf; ComponentLink2Description: Package Specification; ComponentLink2URL: http://www.ti.com/litv/pdf/mpqf155i
footprint RHL20-3050X2050TP (QFN, 20-Leads, Body 4.5x3.5mm, Pitch 0.5mm, Thermal Pad 3.05x2.05mm, TI Recommended)
pins: 1 SA- (in) "Inverting input of the remote voltage sense amplifier.", 2 SAO (out) "Output of the remote voltage sense amplifier.", 3 GND (power) "Ground reference for the device.", 4 SS (in) "Soft-start programming pin. A capacitor connected from this pin to GND programs the soft-start time. The capacitor is charged with an internal current source of 12 uA. The resulting voltage ramp on the SS pin is used as a (See Datasheet)", 5 FB (in) "Inverting input to the error amplifier. In normal operation the voltage on this pin is equal to the internal reference voltage, 0.7 V.", 6 COMP "Output of the error amplifier, input to the PWM comparator. A feedback network is connected from this pin to the FB pin to compensate the overall loop. This pin is internally clamped to a 3.4-V maximum output drive (See Datasheet)", 7 PGND (power) "Power ground reference for the device. There should be a low-impedance path from this pin to the source(s) of the lower MOSFET(s).", 8 LDRV (out) "Gate drive for the N-channel synchronous rectifier. This pin switches from DBP (MOSFET on) to PGND (MOSFET off). For proper operation, the total gate charge of the MOSFET connected to LDRV should be less than 50nC.", 9 DBP (power) "8-V regulator output used for the gate drive of the N-channel synchronous rectifier and as the supply for charging the bootstrap capacitor. This pin should be bypassed to ground with a 1.0-uF ceramic capacitor.", 10 SW (power) "This pin is connected to the switched node of the converter and used for overcurrent sensing as well as gate drive timing. This pin is also the return path from the high-side FET for the floating high-side FET driver. A 1.(See Datasheet)", 11 BOOST (power) "The BOOST voltage is 8-V greater than the input voltage. The peak voltage on BOOST is equal to the SW node voltage plus the voltage present at DBP less the bootstrap diode drop. This drop can be 1.4 V for the internal (See Datasheet)", 12 HDRV (out) "Floating gate drive for the high-side N-channel MOSFET. This pin switches from BOOST (MOSFET on) to SW (MOSFET off).", 13 VDD (power) "Supply voltage for the device.", 14 ILIM (in) "Short circuit protection programming pin. This pin is used to set the overcurrent threshold. An internal current sink from this pin to ground sets a voltage drop across an external resistor connected from this pin to VDD. (See Datasheet)", 15 KFF (in) "A resistor is connected from this pin to VDD programs the amount of input voltage feed-forward. The current fed into this pin is used to control the slope of the PWM ramp and program undervoltage lockout. Nominal voltage at (See Datasheet)", 16 RT "A resistor is connected from this pin to GND to set the switching frequency.", 17 LVBP (power) "4.2-V reference used for internal device logic and analog functions. This pin should be bypassed to GND with a 0.1-uF ceramic capacitor. External loads less than 1 mA and electrically quiet may be applied.", 18 PGD (oc) "This is an open drain output that pulls to ground when soft start is active, or when the FB pin is outside a +/-10% band around the 700 mV reference voltage.", 19 SYNC (in) "Logic input for pulse train to synchronize oscillator.", 20 SA+ (in) "Noninverting input of the remote voltage sense amplifier.", 21 EP "Exposed Thermal Pad."

## TPS40075RHLT
designator U?
Wide Input Synchronous Buck Controller with Voltage Feed Forward, 84 % Duty Cycle, 4.5 to 28 V, -40 to 85 degC, 20-pin QFN (RHL), Green (RoHS & no Sb/Br); Manufacturer: Texas Instruments; PartNumber: TPS40075RHLT; Duty Cycle(Max)(%): 84; Iout(Max)(A): 20; Regulated Outputs(#): 1; SubFamily: Step-Down Controller; Switching Frequency(Max)(kHz): 1000; Synchronous Rectification: TRUE; Vin(Max)(V): 28; Vin(Min)(V): 4.5; Vout(Max)(V): 23; Vout(Min)(V): 0.7; DatasheetVersion: SLUS676A; PackageVersion: revJ, Dec-2011; PackageReference: RHL20-3050X2050TP; PackageDescription: 20-Leads Plastic Quad Flatpack No-Lead, 4.5 x 3.5 x 0.9 mm Body, 0.5 mm Pitch, Exposed Pad; Supplier 1: Digi-Key; Supplier Part Number 1: 296-19886-2-ND; Supplier 2: Digi-Key; Supplier Part Number 2: 296-19886-1-ND; Supplier 3: Digi-Key; Supplier Part Number 3: 296-19886-6-ND; Supplier 4: Farnell; Supplier Part Number 4: 1471222; Supplier 5: Newark; Supplier Part Number 5: 03M1113; Supplier 6: Mouser; Supplier Part Number 6: 595-TPS40075RHLT; Eco-Plan: Green (RoHS & no Sb/Br); Topology: Buck; Mounting Technology: Surface Mount; ComponentLink1Description: Datasheet; ComponentLink1URL: http://www.ti.com/general/docs/lit/getliterature.tsp?genericPartNumber=TPS40075&fileType=pdf; ComponentLink2Description: Package Specification; ComponentLink2URL: http://www.ti.com/litv/pdf/mpqf155i
footprint RHL20-3050X2050TP (QFN, 20-Leads, Body 4.5x3.5mm, Pitch 0.5mm, Thermal Pad 3.05x2.05mm, TI Recommended)
pins: 1 SA- (in) "Inverting input of the remote voltage sense amplifier.", 2 SAO (out) "Output of the remote voltage sense amplifier.", 3 GND (power) "Ground reference for the device.", 4 SS (in) "Soft-start programming pin. A capacitor connected from this pin to GND programs the soft-start time. The capacitor is charged with an internal current source of 12 uA. The resulting voltage ramp on the SS pin is used as a (See Datasheet)", 5 FB (in) "Inverting input to the error amplifier. In normal operation the voltage on this pin is equal to the internal reference voltage, 0.7 V.", 6 COMP "Output of the error amplifier, input to the PWM comparator. A feedback network is connected from this pin to the FB pin to compensate the overall loop. This pin is internally clamped to a 3.4-V maximum output drive (See Datasheet)", 7 PGND (power) "Power ground reference for the device. There should be a low-impedance path from this pin to the source(s) of the lower MOSFET(s).", 8 LDRV (out) "Gate drive for the N-channel synchronous rectifier. This pin switches from DBP (MOSFET on) to PGND (MOSFET off). For proper operation, the total gate charge of the MOSFET connected to LDRV should be less than 50nC.", 9 DBP (power) "8-V regulator output used for the gate drive of the N-channel synchronous rectifier and as the supply for charging the bootstrap capacitor. This pin should be bypassed to ground with a 1.0-uF ceramic capacitor.", 10 SW (power) "This pin is connected to the switched node of the converter and used for overcurrent sensing as well as gate drive timing. This pin is also the return path from the high-side FET for the floating high-side FET driver. A 1.(See Datasheet)", 11 BOOST (power) "The BOOST voltage is 8-V greater than the input voltage. The peak voltage on BOOST is equal to the SW node voltage plus the voltage present at DBP less the bootstrap diode drop. This drop can be 1.4 V for the internal (See Datasheet)", 12 HDRV (out) "Floating gate drive for the high-side N-channel MOSFET. This pin switches from BOOST (MOSFET on) to SW (MOSFET off).", 13 VDD (power) "Supply voltage for the device.", 14 ILIM (in) "Short circuit protection programming pin. This pin is used to set the overcurrent threshold. An internal current sink from this pin to ground sets a voltage drop across an external resistor connected from this pin to VDD. (See Datasheet)", 15 KFF (in) "A resistor is connected from this pin to VDD programs the amount of input voltage feed-forward. The current fed into this pin is used to control the slope of the PWM ramp and program undervoltage lockout. Nominal voltage at (See Datasheet)", 16 RT "A resistor is connected from this pin to GND to set the switching frequency.", 17 LVBP (power) "4.2-V reference used for internal device logic and analog functions. This pin should be bypassed to GND with a 0.1-uF ceramic capacitor. External loads less than 1 mA and electrically quiet may be applied.", 18 PGD (oc) "This is an open drain output that pulls to ground when soft start is active, or when the FB pin is outside a +/-10% band around the 700 mV reference voltage.", 19 SYNC (in) "Logic input for pulse train to synchronize oscillator.", 20 SA+ (in) "Noninverting input of the remote voltage sense amplifier.", 21 EP "Exposed Thermal Pad."

## TPS40075RHLTG4
designator U?
Wide Input Synchronous Buck Controller with Voltage Feed Forward, 84 % Duty Cycle, 4.5 to 28 V, -40 to 85 degC, 20-pin QFN (RHL), Green (RoHS & no Sb/Br); Manufacturer: Texas Instruments; PartNumber: TPS40075RHLTG4; Duty Cycle(Max)(%): 84; Iout(Max)(A): 20; Regulated Outputs(#): 1; SubFamily: Step-Down Controller; Switching Frequency(Max)(kHz): 1000; Synchronous Rectification: TRUE; Vin(Max)(V): 28; Vin(Min)(V): 4.5; Vout(Max)(V): 23; Vout(Min)(V): 0.7; DatasheetVersion: SLUS676A; PackageVersion: revJ, Dec-2011; PackageReference: RHL20-3050X2050TP; PackageDescription: 20-Leads Plastic Quad Flatpack No-Lead, 4.5 x 3.5 x 0.9 mm Body, 0.5 mm Pitch, Exposed Pad; Supplier 1: Digi-Key; Supplier Part Number 1: TPS40075RHLTG4-ND; Supplier 2: Newark; Supplier Part Number 2: 04M0252; Supplier 3: Mouser; Supplier Part Number 3: 595-TPS40075RHLTG4; Eco-Plan: Green (RoHS & no Sb/Br); Topology: Buck; Mounting Technology: Surface Mount; ComponentLink1Description: Datasheet; ComponentLink1URL: http://www.ti.com/general/docs/lit/getliterature.tsp?genericPartNumber=TPS40075&fileType=pdf; ComponentLink2Description: Package Specification; ComponentLink2URL: http://www.ti.com/litv/pdf/mpqf155i
footprint RHL20-3050X2050TP (QFN, 20-Leads, Body 4.5x3.5mm, Pitch 0.5mm, Thermal Pad 3.05x2.05mm, TI Recommended)
pins: 1 SA- (in) "Inverting input of the remote voltage sense amplifier.", 2 SAO (out) "Output of the remote voltage sense amplifier.", 3 GND (power) "Ground reference for the device.", 4 SS (in) "Soft-start programming pin. A capacitor connected from this pin to GND programs the soft-start time. The capacitor is charged with an internal current source of 12 uA. The resulting voltage ramp on the SS pin is used as a (See Datasheet)", 5 FB (in) "Inverting input to the error amplifier. In normal operation the voltage on this pin is equal to the internal reference voltage, 0.7 V.", 6 COMP "Output of the error amplifier, input to the PWM comparator. A feedback network is connected from this pin to the FB pin to compensate the overall loop. This pin is internally clamped to a 3.4-V maximum output drive (See Datasheet)", 7 PGND (power) "Power ground reference for the device. There should be a low-impedance path from this pin to the source(s) of the lower MOSFET(s).", 8 LDRV (out) "Gate drive for the N-channel synchronous rectifier. This pin switches from DBP (MOSFET on) to PGND (MOSFET off). For proper operation, the total gate charge of the MOSFET connected to LDRV should be less than 50nC.", 9 DBP (power) "8-V regulator output used for the gate drive of the N-channel synchronous rectifier and as the supply for charging the bootstrap capacitor. This pin should be bypassed to ground with a 1.0-uF ceramic capacitor.", 10 SW (power) "This pin is connected to the switched node of the converter and used for overcurrent sensing as well as gate drive timing. This pin is also the return path from the high-side FET for the floating high-side FET driver. A 1.(See Datasheet)", 11 BOOST (power) "The BOOST voltage is 8-V greater than the input voltage. The peak voltage on BOOST is equal to the SW node voltage plus the voltage present at DBP less the bootstrap diode drop. This drop can be 1.4 V for the internal (See Datasheet)", 12 HDRV (out) "Floating gate drive for the high-side N-channel MOSFET. This pin switches from BOOST (MOSFET on) to SW (MOSFET off).", 13 VDD (power) "Supply voltage for the device.", 14 ILIM (in) "Short circuit protection programming pin. This pin is used to set the overcurrent threshold. An internal current sink from this pin to ground sets a voltage drop across an external resistor connected from this pin to VDD. (See Datasheet)", 15 KFF (in) "A resistor is connected from this pin to VDD programs the amount of input voltage feed-forward. The current fed into this pin is used to control the slope of the PWM ramp and program undervoltage lockout. Nominal voltage at (See Datasheet)", 16 RT "A resistor is connected from this pin to GND to set the switching frequency.", 17 LVBP (power) "4.2-V reference used for internal device logic and analog functions. This pin should be bypassed to GND with a 0.1-uF ceramic capacitor. External loads less than 1 mA and electrically quiet may be applied.", 18 PGD (oc) "This is an open drain output that pulls to ground when soft start is active, or when the FB pin is outside a +/-10% band around the 700 mV reference voltage.", 19 SYNC (in) "Logic input for pulse train to synchronize oscillator.", 20 SA+ (in) "Noninverting input of the remote voltage sense amplifier.", 21 EP "Exposed Thermal Pad."